# EAGLE library part TPS2116DRLR (library TPS2116DRLR)
d Source: Datasheet <https://www.ti.com/lit/gpn/tps2116>
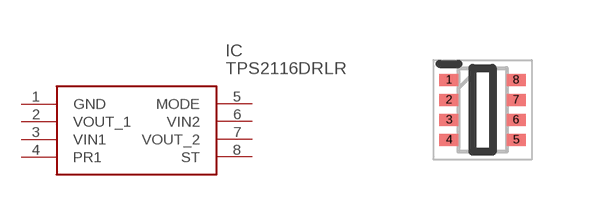
[diagram p0: symbol with the pads of SOTFL50P160X60-8N; footprint SOTFL50P160X60-8N]

Designator prefix IC

## TPS2116DRLR (Description: d; Height: 0.6mm; Manufacturer_Name: Texas Instruments; Manufacturer_Part_Number: TPS2116DRLR; Mouser_Part_Number: 595-TPS2116DRLR; Mouser_Price-Stock: https://www.mouser.co.uk/ProductDetail/Texas-Instruments/TPS2116DRLR?qs=aP1CjGhiNiGo3XAyXcVPaQ%3D%3D)  [SOTFL50P160X60-8N]
1  GND
2  VOUT_1
3  VIN1
4  PR1
5  MODE
6  VIN2
7  VOUT_2
8  ST

## Footprint SOTFL50P160X60-8N (pad centres in mm)
DRL_8
smd 0.475 x 0.3: 1 -0.838,0.75; 2 -0.838,0.25; 3 -0.838,-0.25; 4 -0.838,-0.75; 5 0.838,-0.75; 6 0.838,-0.25; 7 0.838,0.25; 8 0.838,0.75